# Altium integrated library PIC16F84A-04I_SS.IntLib: 1 symbol
Pins are listed as number, name and electrical type; pins without a type are passive.

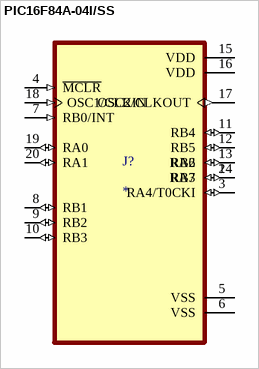
[diagram p0: symbol PIC16F84A-04I/SS]

## PIC16F84A-04I/SS
designator J?
1.75 KB Flash, 68 RAM, 13 I/O | Microchip Technology Inc. PIC16F84A-04I/SS; SnapEDA_Link: https://www.snapeda.com/parts/PIC16F84A-04I/SS/Microchip+Technology/view-part/?ref=snap; Package: SSOP-20 Microchip; Value: *; MF: Microchip Technology; MP: PIC16F84A-04I/SS; Check_prices: https://www.snapeda.com/parts/PIC16F84A-04I/SS/Microchip+Technology/view-part/?ref=eda
footprint SOP65P780X200-20N
pins: 1 RA2 (io), 2 RA3 (io), 3 RA4/T0CKI (io), 4 ~{MCLR} (in), 5 VSS (power), 6 VSS (power), 7 RB0/INT (in), 8 RB1 (io), 9 RB2 (io), 10 RB3 (io), 11 RB4 (io), 12 RB5 (io), 13 RB6 (io), 14 RB7 (io), 15 VDD (power), 16 VDD (power), 17 OSC2/CLKOUT (out), 18 OSC1/CLKIN (in), 19 RA0 (io), 20 RA1 (io)